# EAGLE library part TPA3136D2 (library marius)
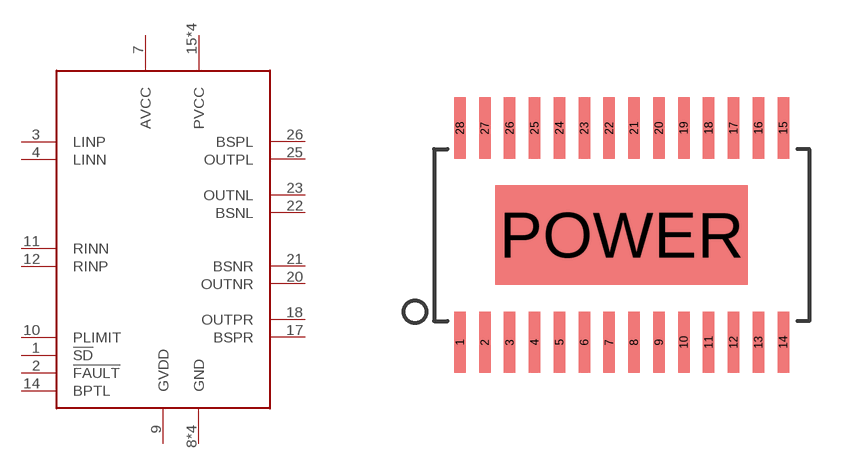
[diagram p34: symbol with the pads of R-PDSO-G28; footprint R-PDSO-G28]

Designator prefix U

## TPA3136D2 (MPN: TPA3136D2PWPR)  [R-PDSO-G28]
1  !SD  in
2  !FAULT  out
3  LINP  in
4  LINN  in
7  AVCC  pwr
8  GND  pwr
9  GVDD  pwr
10  PLIMIT
11  RINN  in
12  RINP  in
14  BPTL  in
15  PVCC  pwr
16  PVCC  pwr
17  BSPR  in
18  OUTPR  out
19  GND  pwr
20  OUTNR  out
21  BSNR  in
22  BSNL  in
23  OUTNL  out
24  GND  pwr
25  OUTPL  out
26  BSPL  in
27  PVCC  pwr
28  PVCC  pwr
POWER  GND  pwr

## Footprint R-PDSO-G28 (pad centres in mm)
smd 0.3 x 1.6: 1 -4.225,-2.8; 2 -3.575,-2.8; 3 -2.925,-2.8; 4 -2.275,-2.8; 5 -1.625,-2.8; 6 -0.975,-2.8; 7 -0.325,-2.8; 8 0.325,-2.8; 9 0.975,-2.8; 10 1.625,-2.8; 11 2.275,-2.8; 12 2.925,-2.8; 13 3.575,-2.8; 14 4.225,-2.8; 15 4.225,2.8; 16 3.575,2.8; 17 2.925,2.8; 18 2.275,2.8; 19 1.625,2.8; 20 0.975,2.8; 21 0.325,2.8; 22 -0.325,2.8; 23 -0.975,2.8; 24 -1.625,2.8; 25 -2.275,2.8; 26 -2.925,2.8; 27 -3.575,2.8; 28 -4.225,2.8
smd 6.6 x 2.6: POWER 0,0